# EAGLE library part AVRISP (library hello_radio_016)
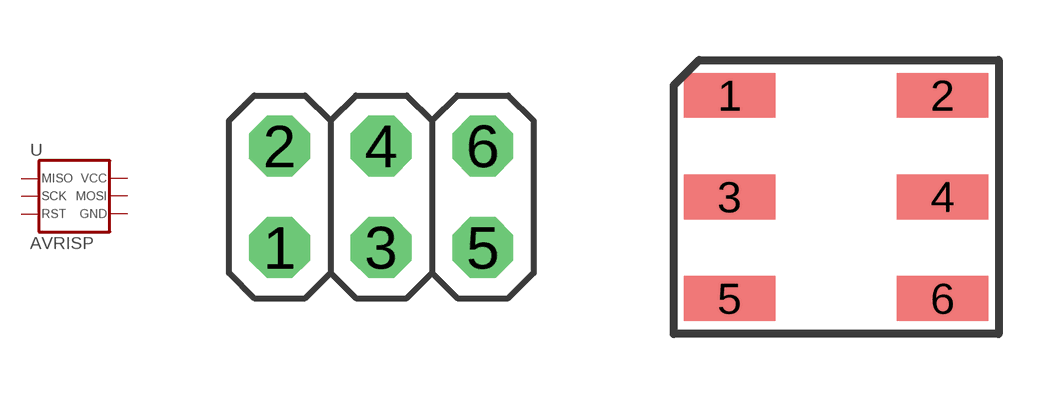
[diagram p0: symbol with the pads of 2X03; footprints 2X03, 2X03SMD]

Designator prefix -

## AVRISP_PTH  [2X03]
1  MISO  pas
2  VCC  pas
3  SCK  pas
4  MOSI  pas
5  RST  pas
6  GND  pas

## AVRISP_SMD  [2X03SMD]
Pads as for 2X03

## Footprint 2X03 (pad centres in mm)
PIN HEADER
drill 1.016 octagon: 1 -2.54,-1.27; 2 -2.54,1.27; 3 0,-1.27; 4 0,1.27; 5 2.54,-1.27; 6 2.54,1.27

## Footprint 2X03SMD (pad centres in mm)
smd 2.286 x 1.118: 1 -2.667,2.54; 2 2.666,2.54; 3 -2.667,0; 4 2.666,0; 5 -2.667,-2.54; 6 2.666,-2.54